# EAGLE library part SIM-HOLDER (library BaseApp)
670-1519-1-ND 670-1518-ND
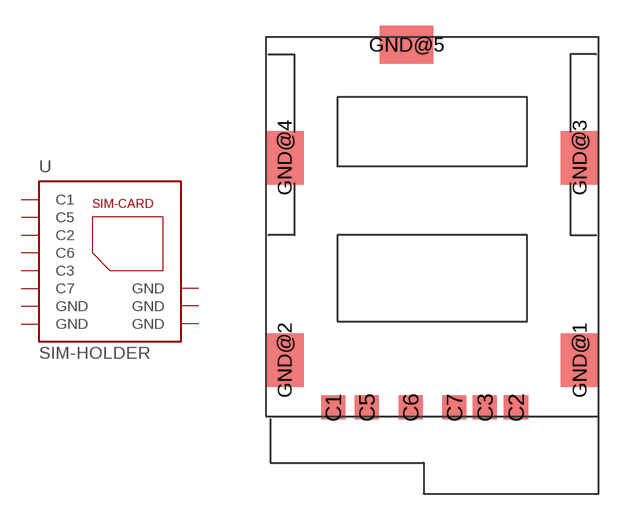
[diagram p40: symbol with the pads of SIM-HOLDER; footprint SIM-HOLDER]

Designator prefix -

## SIM-HOLDER-TRAY  [SIM-HOLDER]
C1  C1  pas
C2  C2  pas
C3  C3  pas
C5  C5  pas
C6  C6  pas
C7  C7  pas
GND@1  GND  pas
GND@2  GND  pas
GND@3  GND  pas
GND@4  GND  pas
GND@5  GND  pas

## Footprint SIM-HOLDER (pad centres in mm)
smd 1.4 x 1.4: C1 -5.25,-9.5; C2 5.35,-9.5; C3 3.55,-9.5; C5 -3.3,-9.5; C6 -0.76,-9.5; C7 1.78,-9.5
smd 2.2 x 3.1: GND@1 9.05,-6.75; GND@2 -8.05,-6.75; GND@3 9.05,5; GND@4 -8.05,5
smd 3.1 x 2.2: GND@5 -0.99,11.55